# Altium footprint library BT_Programmer_Shield.PcbLib: 17 footprints (part 2 of 2)
Each footprint in its own frame and in the unit in brackets; x right, y up, seen from the top. Pads: shape width x height; smd on the part's side, far side on the other; paste and mask are expansions set on the pad; w line width, h text height; cw(c..) or ccw(c..) is an arc to the next point about the centre after c.
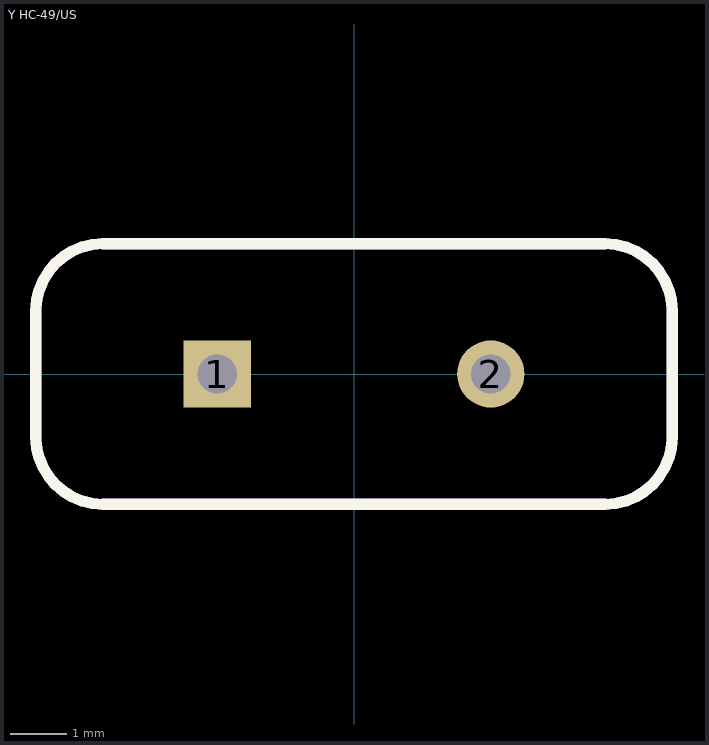
[diagram p1: the footprint, top view; thin cyan lines are the x and y axes]

## Y HC-49/US [mm]
pads (2):
  rect 1.2x1.2 hole 0.7: 1(-2.44,0)
  round 1.2 hole 0.7: 2(2.44,0)
Top Overlay:
  lines w0.2: -5.675,-1.125 ccw(c-4.475,-1.125) -4.475,-2.325 4.475,-2.325 ccw(c4.475,-1.125) 5.675,-1.125 5.675,1.125 ccw(c4.475,1.125) 4.475,2.325 -4.475,2.325 ccw(c-4.475,1.125) -5.675,1.125 -5.675,-1.125
Mechanical 29:
  lines w0.2: -5.675,-1.125 ccw(c-4.475,-1.125) -4.475,-2.325 4.475,-2.325 ccw(c4.475,-1.125) 5.675,-1.125 5.675,1.125 ccw(c4.475,1.125) 4.475,2.325 -4.475,2.325 ccw(c-4.475,1.125) -5.675,1.125 -5.675,-1.125
  text "'.Designator'" at -4.9,-0.8 h0.7
3D body "User Library-HC_49_USX.step": height 4.01, standoff -1.99, extent -5.65,-2.325 5.7,2.325